# EAGLE library part BOURNS-RESISTOR-ARRAY_4306R (library DINv2.1)
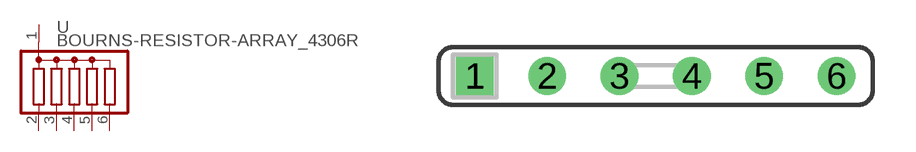
[diagram p1: symbol with the pads of BOURNS-RESISTOR-ARRAY_SIL6; footprint BOURNS-RESISTOR-ARRAY_SIL6]

Designator prefix -

## BOURNS-RESISTOR-ARRAY_4306R  [BOURNS-RESISTOR-ARRAY_SIL6]
1  1  pas
2  2  pas
3  3  pas
4  4  pas
5  5  pas
6  6  pas

## Footprint BOURNS-RESISTOR-ARRAY_SIL6 (pad centres in mm)
drill 0.813 square: 1 -6.35,0
drill 0.813: 2 -3.81,0; 3 -1.27,0; 4 1.27,0; 5 3.81,0; 6 6.35,0